# EAGLE library part CON_FFC_7 (library wheat)
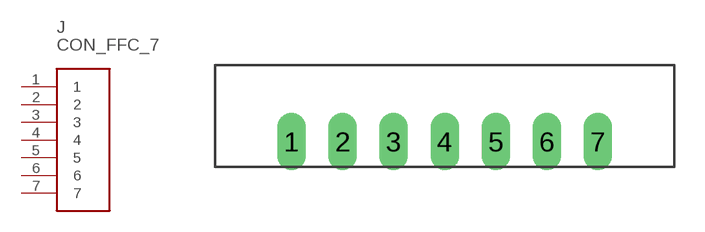
[diagram p290: symbol with the pads of CON_FLEX7; footprint CON_FLEX7]

Designator prefix J

## CON_FFC_7  [CON_FLEX7]
1  1
2  2
3  3
4  4
5  5
6  6
7  7

## Footprint CON_FLEX7 (pad centres in mm)
drill 0.9 pad 1.422 long: 1 -7.62,0; 2 -5.08,0; 3 -2.54,0; 4 0,0; 5 2.54,0; 6 5.08,0; 7 7.62,0